# Altium schematic symbol library CS6422.Schlib: 1 symbol
Pins are listed as number, name and electrical type; pins without a type are passive.

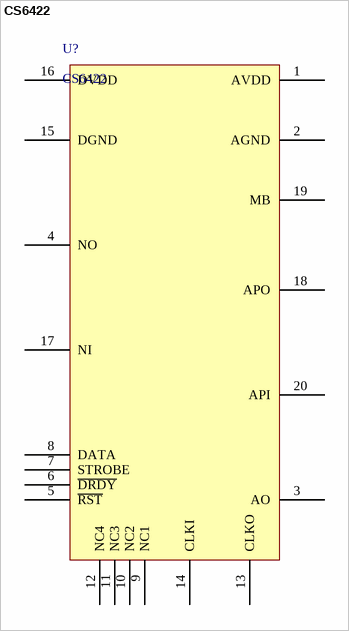
[diagram p0: symbol CS6422]

## CS6422
designator U?
pins: 1 AVDD (power), 2 AGND (power), 3 AO (power), 4 NO (power), 5 ~{RST} (power), 6 ~{DRDY} (power), 7 STROBE (power), 8 DATA (power), 9 NC1 (power), 10 NC2 (power), 11 NC3 (power), 12 NC4 (power), 13 CLKO (power), 14 CLKI (power), 15 DGND (power), 16 DVDD (power), 17 NI (power), 18 APO (power), 19 MB (power), 20 API (power)